# Altium footprint library GPS-Module-PcbLib.PcbLib: 24 footprints (part 1 of 2)
Each footprint in its own frame and in the unit in brackets; x right, y up, seen from the top. Pads: shape width x height; smd on the part's side, far side on the other; paste and mask are expansions set on the pad; w line width, h text height; cw(c..) or ccw(c..) is an arc to the next point about the centre after c.
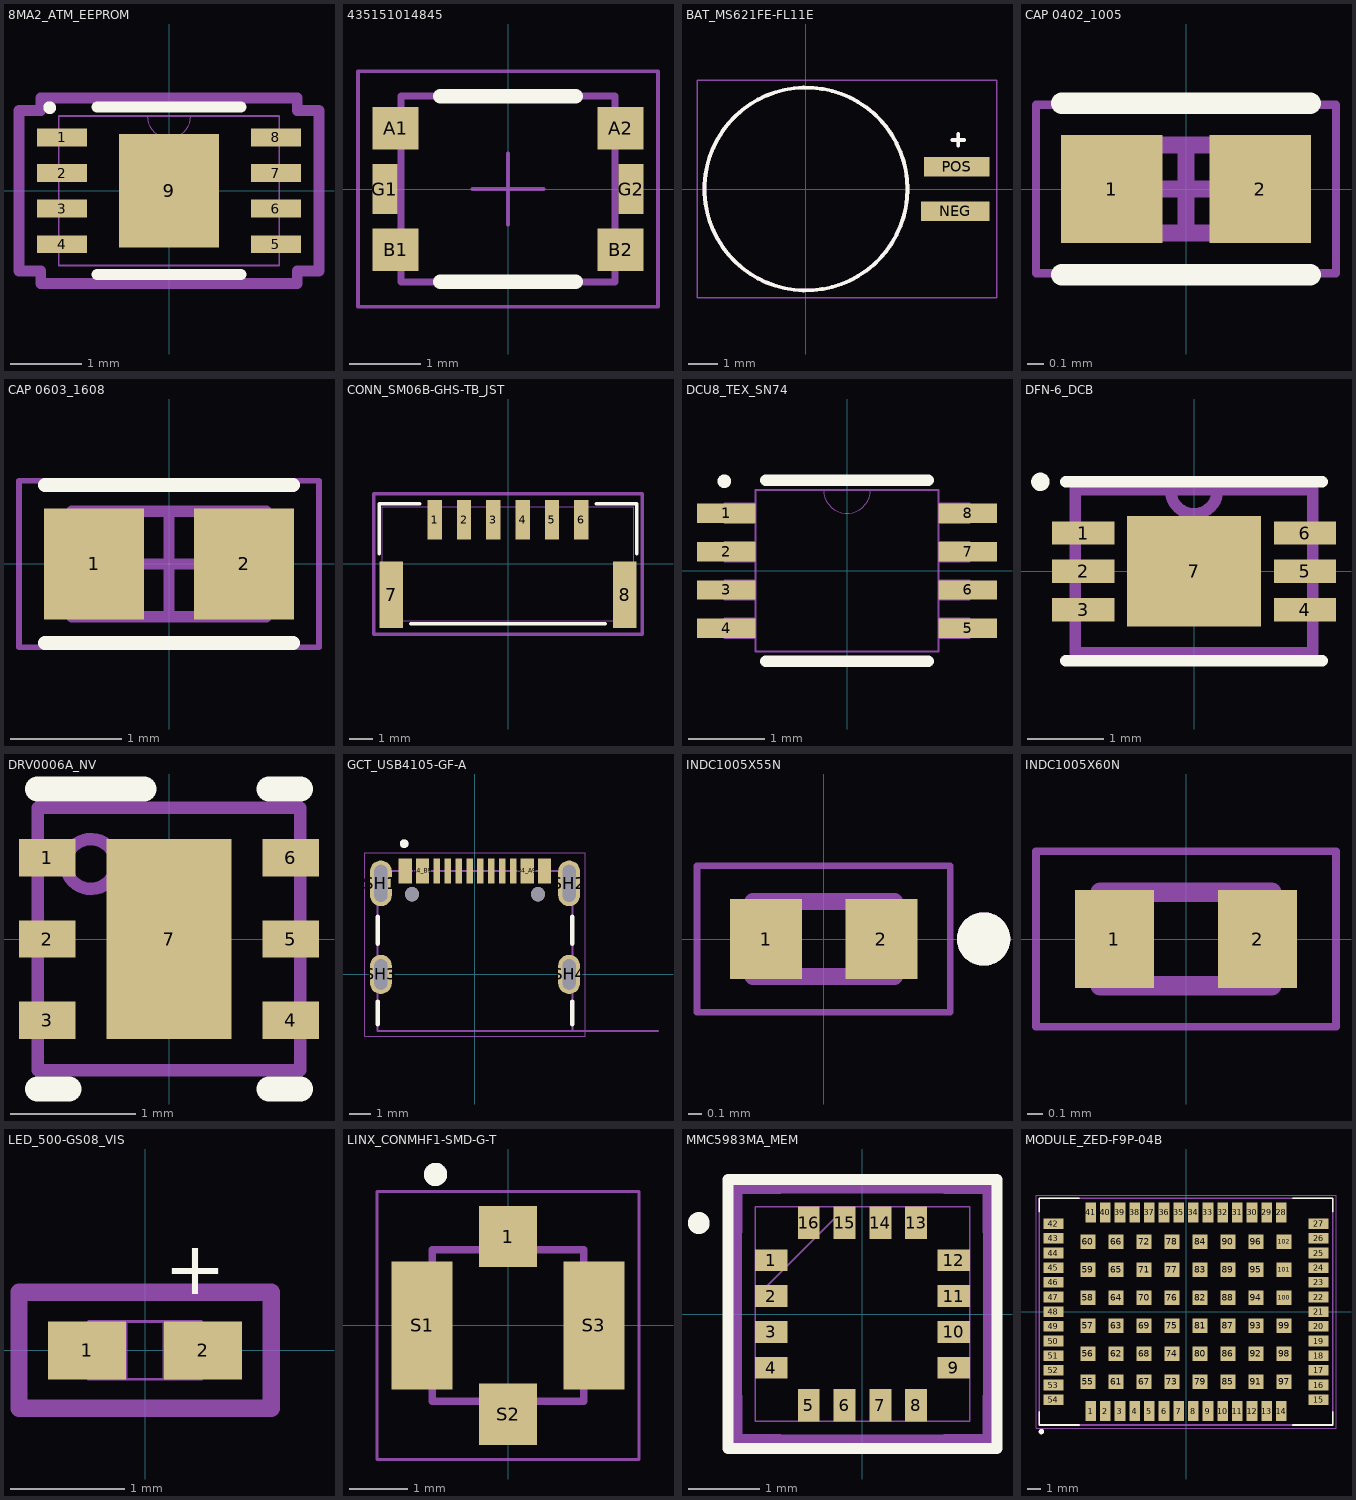
[diagram p0: the footprints below, top view; thin cyan lines are the x and y axes]

## 8MA2_ATM_EEPROM [mm]
pads (9):
  rect 0.705x0.249 smd paste+0 mask+0: 1(-1.502,0.75) 2(-1.502,0.25) 3(-1.502,-0.25) 4(-1.502,-0.75) 5(1.502,-0.75) 6(1.502,-0.25) 7(1.502,0.25) 8(1.502,0.75)
  rect 1.4x1.6 smd paste+0 mask+0: 9(0,0)
Top Overlay:
  circle w0.127: c-1.676,1.168 r0.025
  lines w0.152: -1.011,-1.177 1.011,-1.177 ; -1.011,1.177 1.011,1.177
Mechanical 13:
  lines w0: -0.305,1.05 ccw(c0,1.05) 0.305,1.05
  lines w0.025: -1.55,-1.05 -1.55,1.05 1.55,1.05 1.55,-1.05 -1.55,-1.05
Mechanical 15:
  lines w0.152: -2.109,-1.129 -1.804,-1.129 -1.804,-1.304 1.804,-1.304 1.804,-1.129 2.109,-1.129 2.109,1.129 1.804,1.129 1.804,1.304 -1.804,1.304 -1.804,1.129 -2.109,1.129 -2.109,-1.129
3D body "8MA2_ATM.step": height 0.6, standoff 0, extent -1.55,-1.05 1.55,1.05

## 435151014845 [mm] "SMD Tact Switch, body 3x2.6mm"
height 1.4
pads (6):
  rect 0.65x0.6 smd mask+0.025: A1(-1.575,0.85) A2(1.575,0.85) B1(-1.575,-0.85) B2(1.575,-0.85)
  rect 0.35x0.7 smd mask+0.025: G1(-1.725,0) G2(1.725,0)
Top Overlay:
  lines w0.2: -0.95,-1.3 0.95,-1.3 ; -0.95,1.3 0.95,1.3
Top Courtyard:
  lines w0.05: -2.1,-1.65 2.1,-1.65 2.1,1.65 -2.1,1.65 -2.1,-1.65
Top Component Outline:
  lines w0.1: -1.5,-1.3 1.5,-1.3 1.5,1.3 -1.5,1.3 -1.5,-1.3
Top Component Center:
  lines w0.05: -0.5,0 0.5,0 ; 0,-0.5 0,0.5
3D body "4351x10148xx.stp": height 1.43, standoff 0.02, extent -1.75,-1.3 1.75,1.3

## BAT_MS621FE-FL11E [mm]
height 2.8
pads (2):
  rect 2.3x0.65 smd: NEG(5,-0.75)
  rect 2.2x0.65 smd: POS(5.05,0.75)
Top Overlay:
  circle w0.127: c0,0 r3.4
  lines w0.127: 4.9,1.646 5.3,1.646 ; 5.1,1.446 5.1,1.846
Mechanical 13:
  circle w0.127: c0,0 r3.4
  lines w0.127: 4.9,1.646 5.3,1.646 ; 5.1,1.446 5.1,1.846
Mechanical 15:
  lines w0.05: -3.65,-3.65 6.4,-3.65 6.4,3.65 -3.65,3.65 -3.65,-3.65
3D body "step_temp.STEP": height 2.8, standoff 0, extent -3.4,-3.4 5.9,3.4

## CAP 0402_1005 [mm] "Chip Capacitor, 2-Leads, Body 1.02x0.51mm, IPC Medium Density"
height 0.52
pads (2):
  rect 0.6x0.64 smd mask+0.051: 1(-0.44,0) 2(0.44,0)
Top Overlay:
  lines w0.127: -0.737,-0.508 0.737,-0.508 ; -0.737,0.508 0.737,0.508
Mechanical 13:
  lines w0.1: -0.515,-0.26 -0.515,0.26 0.515,0.26 0.515,-0.26 -0.515,-0.26
Mechanical 15:
  lines w0.05: -0.889,-0.5 -0.889,0.5 0.889,0.5 0.889,-0.5 -0.889,-0.5
  lines w0.1: -0.26,0 0.26,0 ; 0,-0.26 0,0.26
3D body "0402 cap.STEP": height 0.52, standoff 0, extent -0.5,-0.262 0.5,0.262

## CAP 0603_1608 [mm] "Chip Capacitor, 2-Leads, Body 1.60x0.80mm, IPC Medium Density"
height 0.89
pads (2):
  rect 0.9x1 smd: 1(-0.675,0) 2(0.675,0)
Top Overlay:
  lines w0.127: -1.118,-0.711 1.118,-0.711 ; -1.118,0.711 1.118,0.711
Mechanical 13:
  lines w0.1: -0.875,-0.475 -0.875,0.475 0.875,0.475 0.875,-0.475 -0.875,-0.475
Mechanical 15:
  lines w0.05: -1.35,-0.75 -1.35,0.75 1.35,0.75 1.35,-0.75 -1.35,-0.75
  lines w0.1: -0.475,0 0.475,0 ; 0,-0.475 0,0.475
3D body "0603 cap.STEP": height 0.82, standoff 0, extent -0.8,-0.412 0.8,0.412

## CONN_SM06B-GHS-TB_JST [mil]
pads (8):
  rect 24x67 smd paste+0 mask+0: 1(-123.03,73.85) 2(-73.82,73.85) 3(-24.61,73.85) 4(24.61,73.85) 5(73.82,73.85) 6(123.03,73.85)
  rect 39x112 smd paste+0 mask+0: 7(-195.87,-52.14) 8(195.87,-52.14)
Top Overlay:
  lines w6: -216.5,16.91 -216.5,100.5 -148.13,100.5 ; -163.27,-100.5 163.27,-100.5 ; 148.13,100.5 216.5,100.5 216.5,16.91
Mechanical 13:
  lines w1: -211.5,-95.5 -211.5,95.5 211.5,95.5 211.5,-95.5 -211.5,-95.5
Mechanical 15:
  lines w6: -225.37,-118.14 225.37,-118.14 225.37,117.35 -225.37,117.35 -225.37,-118.14
3D body "SM06B-GHS-TB.STEP": height 167.32, standoff 0, extent -211.61,-95 211.61,95.94

## DCU8_TEX_SN74 [mil]
pads (8):
  rect 30x10 smd paste+0 mask+0: 1(-62,29.53) 2(-62,9.84) 3(-62,-9.84) 4(-62,-29.53) 5(62,-29.53) 6(62,-9.84) 7(62,9.84) 8(62,29.53)
Top Overlay:
  circle w5: c-63,46 r1
  lines w6: -41.68,-46.5 41.68,-46.5 ; -41.68,46.5 41.68,46.5
Mechanical 13:
  lines w0: -12,41.5 ccw(c0,41.5) 12,41.5
  lines w1: -63,-34.53 -47,-34.53 -47,-24.53 -63,-24.53 -63,-34.53 ; -63,-14.84 -47,-14.84 -47,-4.84 -63,-4.84 -63,-14.84 ; -63,4.84 -47,4.84 -47,14.84 -63,14.84 -63,4.84 ; -63,24.53 -47,24.53 -47,34.53 -63,34.53 -63,24.53 ; -47,-41.5 -47,41.5 47,41.5 47,-41.5 -47,-41.5 ; 47,-34.53 63,-34.53 63,-24.53 47,-24.53 47,-34.53 ; 47,-14.84 63,-14.84 63,-4.84 47,-4.84 47,-14.84 ; 47,4.84 63,4.84 63,14.84 47,14.84 47,4.84 ; 47,24.53 63,24.53 63,34.53 47,34.53 47,24.53
3D body "DCU8_TEX.step": height 35.12, standoff 0, extent -62.99,-41.5 62.99,41.5

## DFN-6_DCB [mil]
pads (7):
  rect 32x12 smd mask+1: 1(-57,19.68) 2(-57,0) 3(-57,-19.68) 4(57,-19.68) 5(57,0) 6(57,19.68)
  rect 69x57 smd mask+0: 7(0,0)
Top Overlay:
  circle w5: c-79,46 r2.24
  lines w6: -66,-46 66,-46 ; -66,46 66,46
Mechanical 13:
  lines w6: -12,41.08 ccw(c0,41.5) 12,41.92 ; -61,-42 61,-42 61,42 12,42 -61,42 -61,-42
3D body "step_temp.STEP": height 31.5, standoff 0, extent -59.06,-39.37 59.06,39.37

## DRV0006A_NV [mm]
pads (7):
  rect 0.45x0.3 smd paste+0 mask+0.051: 1(-0.975,0.65) 2(-0.975,0) 3(-0.975,-0.65) 4(0.975,-0.65) 5(0.975,0) 6(0.975,0.65)
  rect 1x1.6 smd paste-0.5 mask+0.051: 7(0,0)
Top Overlay:
  lines w0.2: -1.05,-1.2 -0.8,-1.2 ; -1.05,1.2 -0.2,1.2 ; 0.8,-1.2 1.05,-1.2 ; 0.8,1.2 1.05,1.2
Top Paste:
  region: -0.499,-0.761 -0.5,-0.751 -0.5,-0.149 -0.499,-0.139 -0.496,-0.13 -0.492,-0.122 -0.486,-0.114 -0.478,-0.108 -0.47,-0.104 -0.461,-0.101 -0.451,-0.1 0.451,-0.1 0.461,-0.101 0.47,-0.104 0.478,-0.108 0.486,-0.114 0.492,-0.122 0.496,-0.13 0.499,-0.139 0.5,-0.149 0.5,-0.751 0.499,-0.761 0.496,-0.77 0.492,-0.778 0.486,-0.786 0.478,-0.792 0.47,-0.796 0.461,-0.799 0.451,-0.8 -0.451,-0.8 -0.461,-0.799 -0.47,-0.796 -0.478,-0.792 -0.486,-0.786 -0.492,-0.778 -0.496,-0.77
  region: -0.499,0.139 -0.5,0.149 -0.5,0.751 -0.499,0.761 -0.496,0.77 -0.492,0.778 -0.486,0.786 -0.478,0.792 -0.47,0.796 -0.461,0.799 -0.451,0.8 0.451,0.8 0.461,0.799 0.47,0.796 0.478,0.792 0.486,0.786 0.492,0.778 0.496,0.77 0.499,0.761 0.5,0.751 0.5,0.149 0.499,0.139 0.496,0.13 0.492,0.122 0.486,0.114 0.478,0.108 0.47,0.104 0.461,0.101 0.451,0.1 -0.451,0.1 -0.461,0.101 -0.47,0.104 -0.478,0.108 -0.486,0.114 -0.492,0.122 -0.496,0.13
Mechanical 13:
  circle w0.1: c-0.625,0.6 r0.2
  lines w0.1: -1.05,-1.05 1.05,-1.05 1.05,1.05 -1.05,1.05 -1.05,-1.05
3D body "DRV0006A.stp": height 0.8, standoff 0, extent -1,-1 1,1

## GCT_USB4105-GF-A [mm]
height 3.31
pads (18):
  rect 0.6x1.15 smd mask+0: A1_B12(-3.2,4.755) A4_B9(-2.4,4.755) B1_A12(3.2,4.755) B4_A9(2.4,4.755)
  rect 0.3x1.15 smd mask+0: A5(-1.25,4.755) A6(-0.25,4.755) A7(0.25,4.755) A8(1.25,4.755) B5(1.75,4.755) B6(0.75,4.755) B7(-0.75,4.755) B8(-1.75,4.755)
  oval 1x2.1 hole 0.6 slot 1.7 at 90 deg: SH1(-4.32,4.18) SH2(4.32,4.18)
  oval 1x1.8 hole 0.6 slot 1.4 at 90 deg: SH3(-4.32,0) SH4(4.32,0)
  round 0.65 hole 0.65 unplated mask+0: ""(-2.89,3.68) ""(2.89,3.68)
Top Overlay:
  circle w0.2: c-3.25,6 r0.1
  lines w0.2: -4.47,-2.286 -4.47,-1.245 ; -4.47,1.4 -4.47,2.65 ; 4.47,-2.286 4.47,-1.245 ; 4.47,1.4 4.47,2.65
Mechanical 13:
  circle w0.2: c-3.25,6 r0.1
  lines w0.1: 8.4,-2.6 4.47,-2.6 ; 4.47,-2.6 -4.47,-2.6 -4.47,4.75 4.47,4.75 4.47,-2.6
  text "PCB EDGE" at 5.4,-2.5 h0.41
Mechanical 15:
  lines w0.05: -5.07,-2.85 5.07,-2.85 5.07,5.58 -5.07,5.58 -5.07,-2.85
3D body "USB4105-GF-A.STEP": height 3.31, standoff -1.1, extent -4.47,-2.6 4.47,5.11

## INDC1005X55N [mm]
pads (2):
  rect 0.54x0.6 smd: 1(-0.432,0) 2(0.432,0)
Top Overlay:
  circle w0.2: c1.2,0 r0.1
Mechanical 13:
  circle w0.2: c1.2,0 r0.1
  lines w0.127: -0.53,-0.28 0.53,-0.28 0.53,0.28 -0.53,0.28 -0.53,-0.28
Mechanical 15:
  lines w0.05: -0.95,-0.55 0.95,-0.55 0.95,0.55 -0.95,0.55 -0.95,-0.55
3D body "INDC1005X55N.step": height 0.55, standoff 0, extent -0.5,-0.25 0.5,0.25

## INDC1005X60N [mm]
pads (2):
  rect 0.51x0.63 smd: 1(-0.46,0) 2(0.46,0)
Mechanical 13:
  lines w0.127: -0.55,-0.3 -0.55,0.3 0.55,0.3 0.55,-0.3 -0.55,-0.3
Mechanical 15:
  lines w0.05: -0.965,-0.565 -0.965,0.565 0.965,0.565 0.965,-0.565 -0.965,-0.565
3D body "INDC1005X60N.step": height 0.6, standoff 0, extent -0.5,-0.25 0.5,0.25

## LED_500-GS08_VIS [mil]
pads (2):
  rect 27x20 smd paste+0 mask+0: 1(-20,0) 2(20,0)
Top Overlay:
  text "+" at 28,13.04 h32
Mechanical 13:
  lines w1: -19.5,-10 -19.5,10 ; -19.5,-10 19.5,-10 ; -19.5,-10 -6.5,-10 -6.5,10 -19.5,10 ; -19.5,-10 -19.5,10 ; -19.5,10 19.5,10 ; 19.5,-10 19.5,10 ; 19.5,-10 19.5,10 ; 19.5,-10 6.5,-10 6.5,10 19.5,10
Mechanical 15:
  lines w6: -43.5,-20 43.5,-20 43.5,20 -43.5,20 -43.5,-20
3D body "VLMx15xx_0402.stp": height 12.6, standoff -1.18, extent -19.68,-9.84 19.68,9.84

## LINX_CONMHF1-SMD-G-T [mm]
pads (4):
  rect 1x1.05 smd: 1(0,1.525) S2(0,-1.525)
  rect 1.05x2.2 smd: S1(-1.475,0) S3(1.475,0)
Top Overlay:
  circle w0.2: c-1.245,2.591 r0.1
Mechanical 13:
  circle w0.2: c-1.245,2.591 r0.1
  lines w0.127: -1.3,-1.3 -1.3,1.3 1.3,1.3 1.3,-1.3 -1.3,-1.3
Mechanical 15:
  lines w0.05: -2.25,-2.3 -2.25,2.3 2.25,2.3 2.25,-2.3 -2.25,-2.3
3D body "step_temp.STEP": height 1.3, standoff -0.01, extent -1.5,-1.55 1.5,1.55

## MMC5983MA_MEM [mm]
pads (16):
  rect 0.457x0.305 smd paste+0 mask+0: 1(-1.275,0.75) 2(-1.275,0.25) 3(-1.275,-0.25) 4(-1.275,-0.75) 9(1.275,-0.75) 10(1.275,-0.25) 11(1.275,0.25) 12(1.275,0.75)
  rect 0.305x0.457 smd paste+0 mask+0: 5(-0.75,-1.275) 6(-0.25,-1.275) 7(0.25,-1.275) 8(0.75,-1.275) 13(0.75,1.275) 14(0.25,1.275) 15(-0.25,1.275) 16(-0.75,1.275)
Top Overlay:
  circle w0.254: c-2.286,1.27 r0.025
  lines w0.152: -1.88,-1.88 -1.88,1.88 1.88,1.88 1.88,-1.88 -1.88,-1.88
Mechanical 13:
  lines w0.025: -1.499,0.229 -0.229,1.499 ; -1.499,-1.499 -1.499,1.499 1.499,1.499 1.499,-1.499 -1.499,-1.499
Mechanical 15:
  lines w0.152: -1.758,-1.156 -1.758,1.156 -1.753,1.156 -1.753,1.753 -1.156,1.753 -1.156,1.758 1.156,1.758 1.156,1.753 1.753,1.753 1.753,1.156 1.758,1.156 1.758,-1.156 1.753,-1.156 1.753,-1.753 1.156,-1.753 1.156,-1.758 -1.156,-1.758 -1.156,-1.753 -1.753,-1.753 -1.753,-1.156 -1.758,-1.156
3D body "MMC5983MA_MEM.step": height 0.99, standoff 0, extent -1.549,-1.549 1.549,1.549

## MODULE_ZED-F9P-04B [mm]
height 2.6
pads (102):
  rect 0.8x1.5 smd paste-2 mask+0.051: 1(-7.15,-7.45) 2(-6.05,-7.45) 3(-4.95,-7.45) 4(-3.85,-7.45) 5(-2.75,-7.45) 6(-1.65,-7.45) 7(-0.55,-7.45) 8(0.55,-7.45) 9(1.65,-7.45) 10(2.75,-7.45) 11(3.85,-7.45) 12(4.95,-7.45) 13(6.05,-7.45) 14(7.15,-7.45) 28(7.15,7.45) 29(6.05,7.45) 30(4.95,7.45) 31(3.85,7.45) 32(2.75,7.45) 33(1.65,7.45) 34(0.55,7.45) 35(-0.55,7.45) 36(-1.65,7.45) 37(-2.75,7.45) 38(-3.85,7.45) 39(-4.95,7.45) 40(-6.05,7.45) 41(-7.15,7.45)
  rect 1.5x0.8 smd paste-2 mask+0.051: 15(9.95,-6.6) 16(9.95,-5.5) 17(9.95,-4.4) 18(9.95,-3.3) 19(9.95,-2.2) 20(9.95,-1.1) 21(9.95,0) 22(9.95,1.1) 23(9.95,2.2) 24(9.95,3.3) 25(9.95,4.4) 26(9.95,5.5) 27(9.95,6.6) 42(-9.95,6.6) 43(-9.95,5.5) 44(-9.95,4.4) 45(-9.95,3.3) 46(-9.95,2.2) 47(-9.95,1.1) 48(-9.95,0) 49(-9.95,-1.1) 50(-9.95,-2.2) 51(-9.95,-3.3) 52(-9.95,-4.4) 53(-9.95,-5.5) 54(-9.95,-6.6)
  rect 1.1x1.1 smd paste-0.025 mask+0.051: 55(-7.35,-5.25) 56(-7.35,-3.15) 57(-7.35,-1.05) 58(-7.35,1.05) 59(-7.35,3.15) 60(-7.35,5.25) 61(-5.25,-5.25) 62(-5.25,-3.15) 63(-5.25,-1.05) 64(-5.25,1.05) 65(-5.25,3.15) 66(-5.25,5.25) 67(-3.15,-5.25) 68(-3.15,-3.15) 69(-3.15,-1.05) 70(-3.15,1.05) 71(-3.15,3.15) 72(-3.15,5.25) 73(-1.05,-5.25) 74(-1.05,-3.15) 75(-1.05,-1.05) 76(-1.05,1.05) 77(-1.05,3.15) 78(-1.05,5.25) 79(1.05,-5.25) 80(1.05,-3.15) 81(1.05,-1.05) 82(1.05,1.05) 83(1.05,3.15) 84(1.05,5.25) 85(3.15,-5.25) 86(3.15,-3.15) 87(3.15,-1.05) 88(3.15,1.05) 89(3.15,3.15) 90(3.15,5.25) 91(5.25,-5.25) 92(5.25,-3.15) 93(5.25,-1.05) 94(5.25,1.05) 95(5.25,3.15) 96(5.25,5.25) 97(7.35,-5.25) 98(7.35,-3.15) 99(7.35,-1.05) 100(7.35,1.05) 101(7.35,3.15) 102(7.35,5.25)
Top Overlay:
  circle w0.2: c-10.846,-8.992 r0.1
  lines w0.127: -11,-7.5 -11,-8.5 -8,-8.5 ; -11,7.5 -11,8.5 -8,8.5 ; 8,-8.5 11,-8.5 11,-7.5 ; 8,8.5 11,8.5 11,7.5
Top Paste:
  drawing of 54 lines, arcs and shapes, not listed
Mechanical 13:
  circle w0.2: c-10.846,-8.992 r0.1
  lines w0.127: -11,-8.5 -11,8.5 11,8.5 11,-8.5 -11,-8.5
Mechanical 15:
  lines w0.05: -11.25,-8.75 -11.25,8.75 11.25,8.75 11.25,-8.75 -11.25,-8.75
3D body "step_temp.STEP": height 2.6, standoff 0, extent -11,-8.5 11,8.5